# Altium schematic symbol library polyfuse.SchLib: 1 symbol
Pins are listed as number, name and electrical type; pins without a type are passive.

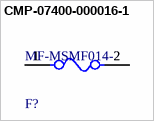
[diagram p0: symbol CMP-07400-000016-1]

## CMP-07400-000016-1
designator F?, comment MF-MSMF014-2
PTC RESET FUSE 60V 140MA 1812; Manufacturer: Bourns; Resistance: 0.4-6.5Ω; Automotive Grade: Grade 3; Hold Current: 0.14A; Value: 0.4-6.5Ω; Trip Current: 0.34A; Current Rating: 40A; Trip Time: 0.15s; Digikey Description: PTC RESET FUSE 60V 140MA 1812; Category: Fuse; RoHS: TRUE; Lead Free: Yes; Ambient Temperature Range High: +85°C; ComponentLink2Description: Datasheet; ComponentLink2URL: https://www.bourns.com/pdfs/mfmsmf.pdf; Mouser Description: Resettable Fuses - PPTC 0.14A 60V 0.40ohm; Voltage Rating: 60V; Automotive: Yes; Height: 1.1mm; Manufacturer Part Number: MF-MSMF014-2; Temperature: -40°C to +85°C; Ambient Temperature Range Low: -40°C; Temperature Range High: +85°C; Device Class L1: Circuit Protection; Package: MF-MSMF-1; Device Class L2: PTC Resettable Fuses; Device Class L3: unset; Octopart: https://octopart.com/mf-msmf014-2-bourns-70906; Temperature Range Low: -40°C
footprint FP-MF-MSMF-1-MFG
pins: 1, 2